# Altium schematic symbol library Schlib1.SchLib: 7 symbols
Pins are listed as number, name and electrical type; pins without a type are passive.

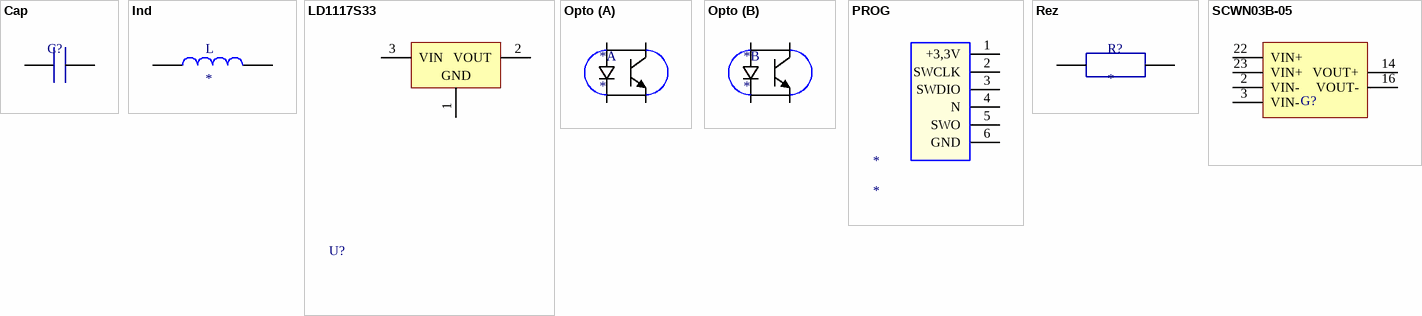
[diagram p0: symbols Cap to SCWN03B-05]

## Cap
designator C?
footprint 0603
pins: 1, 2

## Ind
designator L
footprint 0603
pins: 1, 2

## LD1117S33
designator U?
Adjustable and fixed low drop positive voltage regulator, SOT-223
footprint SOT-223L
pins: 1 GND (power), 2 VOUT (power), 3 VIN (power)

## Opto
designator *
footprint SO-8
part A pins: 1 A1 "Anod1", 2 Ca1 "Catod1", 7 E1 "Emitter1", 8 C1 "Collector1"
part B pins: 3 A2 "Anod2", 4 Ca2 "Catod2", 5 E2 "Emitter2", 6 C2 "Collector2"

## PROG
designator *
footprint 3x2x2,54
pins: 1 +3,3V, 2 SWCLK, 3 SWDIO, 4 N, 5 SWO, 6 GND

## Rez
designator R?
footprint 0603
pins: 1, 2

## SCWN03B-05
designator G?
DC-DC Regulated Converter DIP
footprint DIP
pins: 2 VIN- (power), 3 VIN- (power), 14 VOUT+ (power), 16 VOUT-, 22 VIN+ (power), 23 VIN+ (power)